# EAGLE library part VG64S (library 1A-meinLib)
PCB EUROCARD, 64-pin type C/AC, 2.54 mm
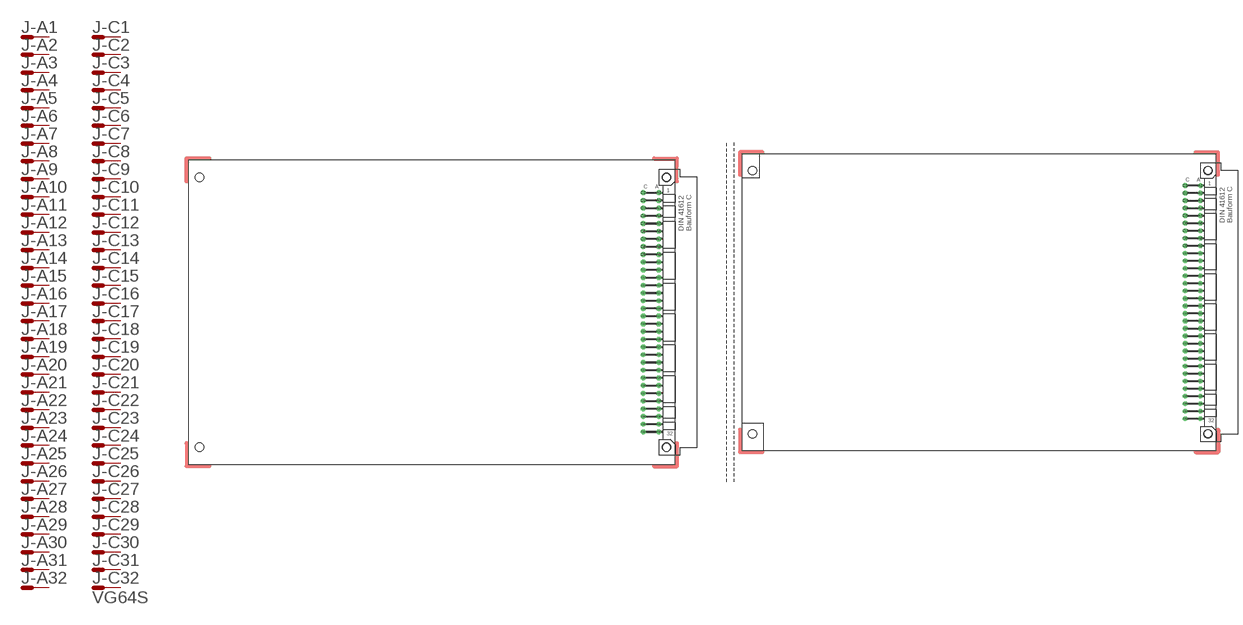
[diagram p11: symbol with the pads of VG64; footprints VG64, VG64B]

Designator prefix J; gates -A1=MS -A2=MS -A3=MS -A4=MS -A5=MS -A6=MS -A7=MS -A8=MS -A9=MS -A10=MS -A11=MS -A12=MS -A13=MS -A14=MS -A15=MS -A16=MS -A17=MS -A18=MS -A19=MS -A20=MS -A21=MS -A22=MS -A23=MS -A24=MS -A25=MS -A26=MS -A27=MS -A28=MS -A29=MS -A30=MS -A31=MS -A32=MS -C1=MS -C2=MS -C3=MS -C4=MS -C5=MS -C6=MS -C7=MS -C8=MS -C9=MS -C10=MS -C11=MS -C12=MS -C13=MS -C14=MS -C15=MS -C16=MS -C17=MS -C18=MS -C19=MS -C20=MS -C21=MS -C22=MS -C23=MS -C24=MS -C25=MS -C26=MS -C27=MS -C28=MS -C29=MS -C30=MS -C31=MS -C32=MSV

## VG64S  [VG64]
A1  -A1:MS  pas
A2  -A2:MS  pas
A3  -A3:MS  pas
A4  -A4:MS  pas
A5  -A5:MS  pas
A6  -A6:MS  pas
A7  -A7:MS  pas
A8  -A8:MS  pas
A9  -A9:MS  pas
A10  -A10:MS  pas
A11  -A11:MS  pas
A12  -A12:MS  pas
A13  -A13:MS  pas
A14  -A14:MS  pas
A15  -A15:MS  pas
A16  -A16:MS  pas
A17  -A17:MS  pas
A18  -A18:MS  pas
A19  -A19:MS  pas
A20  -A20:MS  pas
A21  -A21:MS  pas
A22  -A22:MS  pas
A23  -A23:MS  pas
A24  -A24:MS  pas
A25  -A25:MS  pas
A26  -A26:MS  pas
A27  -A27:MS  pas
A28  -A28:MS  pas
A29  -A29:MS  pas
A30  -A30:MS  pas
A31  -A31:MS  pas
A32  -A32:MS  pas
C1  -C1:MS  pas
C2  -C2:MS  pas
C3  -C3:MS  pas
C4  -C4:MS  pas
C5  -C5:MS  pas
C6  -C6:MS  pas
C7  -C7:MS  pas
C8  -C8:MS  pas
C9  -C9:MS  pas
C10  -C10:MS  pas
C11  -C11:MS  pas
C12  -C12:MS  pas
C13  -C13:MS  pas
C14  -C14:MS  pas
C15  -C15:MS  pas
C16  -C16:MS  pas
C17  -C17:MS  pas
C18  -C18:MS  pas
C19  -C19:MS  pas
C20  -C20:MS  pas
C21  -C21:MS  pas
C22  -C22:MS  pas
C23  -C23:MS  pas
C24  -C24:MS  pas
C25  -C25:MS  pas
C26  -C26:MS  pas
C27  -C27:MS  pas
C28  -C28:MS  pas
C29  -C29:MS  pas
C30  -C30:MS  pas
C31  -C31:MS  pas
C32  -C32:MSV  pas

## VG64SB  [VG64B]
Pads as for VG64

## VG64SK  [VG64K]
Pads as for VG64

## VG64SKB  [VG64KB]
Pads as for VG64

## VG64SP  [VG96P]
Pads as for VG64

## VG64S220  [VG64K220]
Pads as for VG64

## VG64SBACKPL  [VG64-BACKPLANE]
Pads as for VG64

## VG64S-100  [VG64B-100]
Pads as for VG64

## VG64S64P  [VG64P]
Pads as for VG64

## VG64S265MM  [VG64K265]
Pads as for VG64

## VG64S280  [VG64B-280]
Pads as for VG64

## VG64SFEDERLEISTE  [VG64_FEDERLEISTE]
Pads as for VG64

## VG64SDOUBLE_HEIGHT-280_TOP  [VG64P_X1_DOUPLE-HEIGHT-280]
Pads as for VG64

## VG64SX1-DOUBLE-HEIGHT-280-BOTTOM  [VG64P_X1_DOUBLE-HEIGHT-280-BOTTOM]
Pads as for VG64

## Footprint VG64 (pad centres in mm)
EUROCARD, 2 holes, C/AC, 2.54
drill 0.914 pad 1.6 round: A1 154.94,39.37
drill 0.914 pad 1.6 octagon: A2 154.94,36.83; A3 154.94,34.29; A4 154.94,31.75; A5 154.94,29.21; A6 154.94,26.67; A7 154.94,24.13; A8 154.94,21.59; A9 154.94,19.05; A10 154.94,16.51; A11 154.94,13.97; A12 154.94,11.43; A13 154.94,8.89; A14 154.94,6.35; A15 154.94,3.81; A16 154.94,1.27; A17 154.94,-1.27; A18 154.94,-3.81; A19 154.94,-6.35; A20 154.94,-8.89; A21 154.94,-11.43; A22 154.94,-13.97; A23 154.94,-16.51; A24 154.94,-19.05; A25 154.94,-21.59; A26 154.94,-24.13; A27 154.94,-26.67; A28 154.94,-29.21; A29 154.94,-31.75; A30 154.94,-34.29; A31 154.94,-36.83; A32 154.94,-39.37; C1 149.86,39.37; C2 149.86,36.83; C3 149.86,34.29; C4 149.86,31.75; C5 149.86,29.21; C6 149.86,26.67; C7 149.86,24.13; C8 149.86,21.59; C9 149.86,19.05; C10 149.86,16.51; C11 149.86,13.97; C12 149.86,11.43; C13 149.86,8.89; C14 149.86,6.35; C15 149.86,3.81; C16 149.86,1.27; C17 149.86,-1.27; C18 149.86,-3.81; C19 149.86,-6.35; C20 149.86,-8.89; C21 149.86,-11.43; C22 149.86,-13.97; C23 149.86,-16.51; C24 149.86,-19.05; C25 149.86,-21.59; C26 149.86,-24.13; C27 149.86,-26.67; C28 149.86,-29.21; C29 149.86,-31.75; C30 149.86,-34.29; C31 149.86,-36.83; C32 149.86,-39.37
hole 2.794 at 157.48,44.45
hole 2.794 at 157.48,-44.45
hole 2.8 at 3.81,-44.45
hole 2.8 at 3.81,44.45

## Footprint VG64B (pad centres in mm)
EUROCARD, 4 holes, C/AC, 2.54
drill 0.914 pad 1.6 round: A1 154.94,39.37
drill 0.914 pad 1.6 octagon: A2 154.94,36.83; A3 154.94,34.29; A4 154.94,31.75; A5 154.94,29.21; A6 154.94,26.67; A7 154.94,24.13; A8 154.94,21.59; A9 154.94,19.05; A10 154.94,16.51; A11 154.94,13.97; A12 154.94,11.43; A13 154.94,8.89; A14 154.94,6.35; A15 154.94,3.81; A16 154.94,1.27; A17 154.94,-1.27; A18 154.94,-3.81; A19 154.94,-6.35; A20 154.94,-8.89; A21 154.94,-11.43; A22 154.94,-13.97; A23 154.94,-16.51; A24 154.94,-19.05; A25 154.94,-21.59; A26 154.94,-24.13; A27 154.94,-26.67; A28 154.94,-29.21; A29 154.94,-31.75; A30 154.94,-34.29; A31 154.94,-36.83; A32 154.94,-39.37; C1 149.86,39.37; C2 149.86,36.83; C3 149.86,34.29; C4 149.86,31.75; C5 149.86,29.21; C6 149.86,26.67; C7 149.86,24.13; C8 149.86,21.59; C9 149.86,19.05; C10 149.86,16.51; C11 149.86,13.97; C12 149.86,11.43; C13 149.86,8.89; C14 149.86,6.35; C15 149.86,3.81; C16 149.86,1.27; C17 149.86,-1.27; C18 149.86,-3.81; C19 149.86,-6.35; C20 149.86,-8.89; C21 149.86,-11.43; C22 149.86,-13.97; C23 149.86,-16.51; C24 149.86,-19.05; C25 149.86,-21.59; C26 149.86,-24.13; C27 149.86,-26.67; C28 149.86,-29.21; C29 149.86,-31.75; C30 149.86,-34.29; C31 149.86,-36.83; C32 149.86,-39.37
hole 2.794 at 157.48,44.45
hole 2.794 at 157.48,-44.45
hole 2.794 at 3.81,-44.45
hole 2.794 at 3.81,44.45

## Footprint VG64K (pad centres in mm)
EUROCARD, 2 holes, C/ABC, 2.54
drill 0.914 pad 1.6 round: A1 154.94,39.37
drill 0.914 pad 1.6 octagon: A2 154.94,36.83; A3 154.94,34.29; A4 154.94,31.75; A5 154.94,29.21; A6 154.94,26.67; A7 154.94,24.13; A8 154.94,21.59; A9 154.94,19.05; A10 154.94,16.51; A11 154.94,13.97; A12 154.94,11.43; A13 154.94,8.89; A14 154.94,6.35; A15 154.94,3.81; A16 154.94,1.27; A17 154.94,-1.27; A18 154.94,-3.81; A19 154.94,-6.35; A20 154.94,-8.89; A21 154.94,-11.43; A22 154.94,-13.97; A23 154.94,-16.51; A24 154.94,-19.05; A25 154.94,-21.59; A26 154.94,-24.13; A27 154.94,-26.67; A28 154.94,-29.21; A29 154.94,-31.75; A30 154.94,-34.29; A31 154.94,-36.83; A32 154.94,-39.37; C1 149.86,39.37; C2 149.86,36.83; C3 149.86,34.29; C4 149.86,31.75; C5 149.86,29.21; C6 149.86,26.67; C7 149.86,24.13; C8 149.86,21.59; C9 149.86,19.05; C10 149.86,16.51; C11 149.86,13.97; C12 149.86,11.43; C13 149.86,8.89; C14 149.86,6.35; C15 149.86,3.81; C16 149.86,1.27; C17 149.86,-1.27; C18 149.86,-3.81; C19 149.86,-6.35; C20 149.86,-8.89; C21 149.86,-11.43; C22 149.86,-13.97; C23 149.86,-16.51; C24 149.86,-19.05; C25 149.86,-21.59; C26 149.86,-24.13; C27 149.86,-26.67; C28 149.86,-29.21; C29 149.86,-31.75; C30 149.86,-34.29; C31 149.86,-36.83; C32 149.86,-39.37
hole 2.794 at 157.48,44.45
hole 2.794 at 157.48,-44.45

## Footprint VG64KB (pad centres in mm)
EUROCARD, 4 holes, C/AC, 2.54
drill 0.914 pad 1.6 round: A1 154.94,39.37
drill 0.914 pad 1.6 octagon: A2 154.94,36.83; A3 154.94,34.29; A4 154.94,31.75; A5 154.94,29.21; A6 154.94,26.67; A7 154.94,24.13; A8 154.94,21.59; A9 154.94,19.05; A10 154.94,16.51; A11 154.94,13.97; A12 154.94,11.43; A13 154.94,8.89; A14 154.94,6.35; A15 154.94,3.81; A16 154.94,1.27; A17 154.94,-1.27; A18 154.94,-3.81; A19 154.94,-6.35; A20 154.94,-8.89; A21 154.94,-11.43; A22 154.94,-13.97; A23 154.94,-16.51; A24 154.94,-19.05; A25 154.94,-21.59; A26 154.94,-24.13; A27 154.94,-26.67; A28 154.94,-29.21; A29 154.94,-31.75; A30 154.94,-34.29; A31 154.94,-36.83; A32 154.94,-39.37; C1 149.86,39.37; C2 149.86,36.83; C3 149.86,34.29; C4 149.86,31.75; C5 149.86,29.21; C6 149.86,26.67; C7 149.86,24.13; C8 149.86,21.59; C9 149.86,19.05; C10 149.86,16.51; C11 149.86,13.97; C12 149.86,11.43; C13 149.86,8.89; C14 149.86,6.35; C15 149.86,3.81; C16 149.86,1.27; C17 149.86,-1.27; C18 149.86,-3.81; C19 149.86,-6.35; C20 149.86,-8.89; C21 149.86,-11.43; C22 149.86,-13.97; C23 149.86,-16.51; C24 149.86,-19.05; C25 149.86,-21.59; C26 149.86,-24.13; C27 149.86,-26.67; C28 149.86,-29.21; C29 149.86,-31.75; C30 149.86,-34.29; C31 149.86,-36.83; C32 149.86,-39.37
hole 2.794 at 157.48,44.45
hole 2.794 at 157.48,-44.45
hole 2.794 at 3.81,-44.45
hole 2.794 at 3.81,44.45

## Footprint VG96P (pad centres in mm)
EUROCARD, holder, C/ABC, 2.54
drill 0.914 pad 1.6 round: A1 154.94,39.37
drill 0.914 pad 1.6 octagon: A2 154.94,36.83; A3 154.94,34.29; A4 154.94,31.75; A5 154.94,29.21; A6 154.94,26.67; A7 154.94,24.13; A8 154.94,21.59; A9 154.94,19.05; A10 154.94,16.51; A11 154.94,13.97; A12 154.94,11.43; A13 154.94,8.89; A14 154.94,6.35; A15 154.94,3.81; A16 154.94,1.27; A17 154.94,-1.27; A18 154.94,-3.81; A19 154.94,-6.35; A20 154.94,-8.89; A21 154.94,-11.43; A22 154.94,-13.97; A23 154.94,-16.51; A24 154.94,-19.05; A25 154.94,-21.59; A26 154.94,-24.13; A27 154.94,-26.67; A28 154.94,-29.21; A29 154.94,-31.75; A30 154.94,-34.29; A31 154.94,-36.83; A32 154.94,-39.37; B1 152.4,39.37; B2 152.4,36.83; B3 152.4,34.29; B4 152.4,31.75; B5 152.4,29.21; B6 152.4,26.67; B7 152.4,24.13; B8 152.4,21.59; B9 152.4,19.05; B10 152.4,16.51; B11 152.4,13.97; B12 152.4,11.43; B13 152.4,8.89; B14 152.4,6.35; B15 152.4,3.81; B16 152.4,1.27; B17 152.4,-1.27; B18 152.4,-3.81; B19 152.4,-6.35; B20 152.4,-8.89; B21 152.4,-11.43; B22 152.4,-13.97; B23 152.4,-16.51; B24 152.4,-19.05; B25 152.4,-21.59; B26 152.4,-24.13; B27 152.4,-26.67; B28 152.4,-29.21; B29 152.4,-31.75; B30 152.4,-34.29; B31 152.4,-36.83; B32 152.4,-39.37; C1 149.86,39.37; C2 149.86,36.83; C3 149.86,34.29; C4 149.86,31.75; C5 149.86,29.21; C6 149.86,26.67; C7 149.86,24.13; C8 149.86,21.59; C9 149.86,19.05; C10 149.86,16.51; C11 149.86,13.97; C12 149.86,11.43; C13 149.86,8.89; C14 149.86,6.35; C15 149.86,3.81; C16 149.86,1.27; C17 149.86,-1.27; C18 149.86,-3.81; C19 149.86,-6.35; C20 149.86,-8.89; C21 149.86,-11.43; C22 149.86,-13.97; C23 149.86,-16.51; C24 149.86,-19.05; C25 149.86,-21.59; C26 149.86,-24.13; C27 149.86,-26.67; C28 149.86,-29.21; C29 149.86,-31.75; C30 149.86,-34.29; C31 149.86,-36.83; C32 149.86,-39.37
hole 2.794 at 3.81,44.45
hole 2.794 at 3.81,-44.45
hole 2.794 at 157.48,44.45
hole 2.794 at 157.48,-44.45

## Footprint VG64K220 (pad centres in mm)
Europakarte 220mm + 3.5mm x 100 fuer Steckbaugruppe Schroff-20848-487
drill 0.914 pad 1.6 round: A1 153.67,86.36
drill 0.914 pad 1.6 octagon: A2 153.67,83.82; A3 153.67,81.28; A4 153.67,78.74; A5 153.67,76.2; A6 153.67,73.66; A7 153.67,71.12; A8 153.67,68.58; A9 153.67,66.04; A10 153.67,63.5; A11 153.67,60.96; A12 153.67,58.42; A13 153.67,55.88; A14 153.67,53.34; A15 153.67,50.8; A16 153.67,48.26; A17 153.67,45.72; A18 153.67,43.18; A19 153.67,40.64; A20 153.67,38.1; A21 153.67,35.56; A22 153.67,33.02; A23 153.67,30.48; A24 153.67,27.94; A25 153.67,25.4; A26 153.67,22.86; A27 153.67,20.32; A28 153.67,17.78; A29 153.67,15.24; A30 153.67,12.7; A31 153.67,10.16; A32 153.67,7.62; C1 148.59,86.36; C2 148.59,83.82; C3 148.59,81.28; C4 148.59,78.74; C5 148.59,76.2; C6 148.59,73.66; C7 148.59,71.12; C8 148.59,68.58; C9 148.59,66.04; C10 148.59,63.5; C11 148.59,60.96; C12 148.59,58.42; C13 148.59,55.88; C14 148.59,53.34; C15 148.59,50.8; C16 148.59,48.26; C17 148.59,45.72; C18 148.59,43.18; C19 148.59,40.64; C20 148.59,38.1; C21 148.59,35.56; C22 148.59,33.02; C23 148.59,30.48; C24 148.59,27.94; C25 148.59,25.4; C26 148.59,22.86; C27 148.59,20.32; C28 148.59,17.78; C29 148.59,15.24; C30 148.59,12.7; C31 148.59,10.16; C32 148.59,7.62
hole 2.794 at 156.21,91.44
hole 2.794 at 156.21,2.54
hole 2.8 at -57.804,2.54
hole 2.8 at -57.804,91.44

## Footprint VG64-BACKPLANE (pad centres in mm)
drill 0.914 pad 1.6 square: A1 0.002,0.006
drill 0.914 pad 1.6 octagon: A2 0.002,-2.534; A3 0.002,-5.074; A4 0.002,-7.614; A5 0.002,-10.154; A6 0.002,-12.694; A7 0.002,-15.234; A8 0.002,-17.774; A9 0.002,-20.314; A10 0.002,-22.854; A11 0.002,-25.394; A12 0.002,-27.934; A13 0.002,-30.474; A14 0.002,-33.014; A15 0.002,-35.554; A16 0.002,-38.094; A17 0.002,-40.634; A18 0.002,-43.174; A19 0.002,-45.714; A20 0.002,-48.254; A21 0.002,-50.794; A22 0.002,-53.334; A23 0.002,-55.874; A24 0.002,-58.414; A25 0.002,-60.954; A26 0.002,-63.494; A27 0.002,-66.034; A28 0.002,-68.574; A29 0.002,-71.114; A30 0.002,-73.654; A31 0.002,-76.194; A32 0.002,-78.734; C1 5.082,0.006; C2 5.082,-2.534; C3 5.082,-5.074; C4 5.082,-7.614; C5 5.082,-10.154; C6 5.082,-12.694; C7 5.082,-15.234; C8 5.082,-17.774; C9 5.082,-20.314; C10 5.082,-22.854; C11 5.082,-25.394; C12 5.082,-27.934; C13 5.082,-30.474; C14 5.082,-33.014; C15 5.082,-35.554; C16 5.082,-38.094; C17 5.082,-40.634; C18 5.082,-43.174; C19 5.082,-45.714; C20 5.082,-48.254; C21 5.082,-50.794; C22 5.082,-53.334; C23 5.082,-55.874; C24 5.082,-58.414; C25 5.082,-60.954; C26 5.082,-63.494; C27 5.082,-66.034; C28 5.082,-68.574; C29 5.082,-71.114; C30 5.082,-73.654; C31 5.082,-76.194; C32 5.082,-78.734

## Footprint VG64B-100 (pad centres in mm)
drill 0.914 pad 1.6 round: A1 94.94,39.37
drill 0.914 pad 1.6 octagon: A2 94.94,36.83; A3 94.94,34.29; A4 94.94,31.75; A5 94.94,29.21; A6 94.94,26.67; A7 94.94,24.13; A8 94.94,21.59; A9 94.94,19.05; A10 94.94,16.51; A11 94.94,13.97; A12 94.94,11.43; A13 94.94,8.89; A14 94.94,6.35; A15 94.94,3.81; A16 94.94,1.27; A17 94.94,-1.27; A18 94.94,-3.81; A19 94.94,-6.35; A20 94.94,-8.89; A21 94.94,-11.43; A22 94.94,-13.97; A23 94.94,-16.51; A24 94.94,-19.05; A25 94.94,-21.59; A26 94.94,-24.13; A27 94.94,-26.67; A28 94.94,-29.21; A29 94.94,-31.75; A30 94.94,-34.29; A31 94.94,-36.83; A32 94.94,-39.37; C1 89.86,39.37; C2 89.86,36.83; C3 89.86,34.29; C4 89.86,31.75; C5 89.86,29.21; C6 89.86,26.67; C7 89.86,24.13; C8 89.86,21.59; C9 89.86,19.05; C10 89.86,16.51; C11 89.86,13.97; C12 89.86,11.43; C13 89.86,8.89; C14 89.86,6.35; C15 89.86,3.81; C16 89.86,1.27; C17 89.86,-1.27; C18 89.86,-3.81; C19 89.86,-6.35; C20 89.86,-8.89; C21 89.86,-11.43; C22 89.86,-13.97; C23 89.86,-16.51; C24 89.86,-19.05; C25 89.86,-21.59; C26 89.86,-24.13; C27 89.86,-26.67; C28 89.86,-29.21; C29 89.86,-31.75; C30 89.86,-34.29; C31 89.86,-36.83; C32 89.86,-39.37
hole 2.8 at 97.487,44.45
hole 2.8 at 97.487,-44.45
hole 2.8 at 3.81,44.45
hole 2.8 at 3.81,-44.45

## Footprint VG64P (pad centres in mm)
drill 0.914 pad 1.6 round: A1 151.13,83.82
drill 0.914 pad 1.6 octagon: A2 151.13,81.28; A3 151.13,78.74; A4 151.13,76.2; A5 151.13,73.66; A6 151.13,71.12; A7 151.13,68.58; A8 151.13,66.04; A9 151.13,63.5; A10 151.13,60.96; A11 151.13,58.42; A12 151.13,55.88; A13 151.13,53.34; A14 151.13,50.8; A15 151.13,48.26; A16 151.13,45.72; A17 151.13,43.18; A18 151.13,40.64; A19 151.13,38.1; A20 151.13,35.56; A21 151.13,33.02; A22 151.13,30.48; A23 151.13,27.94; A24 151.13,25.4; A25 151.13,22.86; A26 151.13,20.32; A27 151.13,17.78; A28 151.13,15.24; A29 151.13,12.7; A30 151.13,10.16; A31 151.13,7.62; A32 151.13,5.08; C1 146.05,83.82; C2 146.05,81.28; C3 146.05,78.74; C4 146.05,76.2; C5 146.05,73.66; C6 146.05,71.12; C7 146.05,68.58; C8 146.05,66.04; C9 146.05,63.5; C10 146.05,60.96; C11 146.05,58.42; C12 146.05,55.88; C13 146.05,53.34; C14 146.05,50.8; C15 146.05,48.26; C16 146.05,45.72; C17 146.05,43.18; C18 146.05,40.64; C19 146.05,38.1; C20 146.05,35.56; C21 146.05,33.02; C22 146.05,30.48; C23 146.05,27.94; C24 146.05,25.4; C25 146.05,22.86; C26 146.05,20.32; C27 146.05,17.78; C28 146.05,15.24; C29 146.05,12.7; C30 146.05,10.16; C31 146.05,7.62; C32 146.05,5.08
hole 2.794 at 0,88.9
hole 2.794 at 0,0
hole 2.794 at 153.67,88.9
hole 2.794 at 153.67,0

## Footprint VG64K265 (pad centres in mm)
drill 0.914 pad 1.6 round: A1 153.67,86.36
drill 0.914 pad 1.6 octagon: A2 153.67,83.82; A3 153.67,81.28; A4 153.67,78.74; A5 153.67,76.2; A6 153.67,73.66; A7 153.67,71.12; A8 153.67,68.58; A9 153.67,66.04; A10 153.67,63.5; A11 153.67,60.96; A12 153.67,58.42; A13 153.67,55.88; A14 153.67,53.34; A15 153.67,50.8; A16 153.67,48.26; A17 153.67,45.72; A18 153.67,43.18; A19 153.67,40.64; A20 153.67,38.1; A21 153.67,35.56; A22 153.67,33.02; A23 153.67,30.48; A24 153.67,27.94; A25 153.67,25.4; A26 153.67,22.86; A27 153.67,20.32; A28 153.67,17.78; A29 153.67,15.24; A30 153.67,12.7; A31 153.67,10.16; A32 153.67,7.62; C1 148.59,86.36; C2 148.59,83.82; C3 148.59,81.28; C4 148.59,78.74; C5 148.59,76.2; C6 148.59,73.66; C7 148.59,71.12; C8 148.59,68.58; C9 148.59,66.04; C10 148.59,63.5; C11 148.59,60.96; C12 148.59,58.42; C13 148.59,55.88; C14 148.59,53.34; C15 148.59,50.8; C16 148.59,48.26; C17 148.59,45.72; C18 148.59,43.18; C19 148.59,40.64; C20 148.59,38.1; C21 148.59,35.56; C22 148.59,33.02; C23 148.59,30.48; C24 148.59,27.94; C25 148.59,25.4; C26 148.59,22.86; C27 148.59,20.32; C28 148.59,17.78; C29 148.59,15.24; C30 148.59,12.7; C31 148.59,10.16; C32 148.59,7.62
hole 2.794 at 156.21,91.44
hole 2.794 at 156.21,2.54
hole 2.8 at -102.804,2.54
hole 2.8 at -102.804,91.44

## Footprint VG64B-280 (pad centres in mm)
drill 0.914 pad 1.6 round: A1 151.63,83.82
drill 0.914 pad 1.6 octagon: A2 151.63,81.28; A3 151.63,78.74; A4 151.63,76.2; A5 151.63,73.66; A6 151.63,71.12; A7 151.63,68.58; A8 151.63,66.04; A9 151.63,63.5; A10 151.63,60.96; A11 151.63,58.42; A12 151.63,55.88; A13 151.63,53.34; A14 151.63,50.8; A15 151.63,48.26; A16 151.63,45.72; A17 151.63,43.18; A18 151.63,40.64; A19 151.63,38.1; A20 151.63,35.56; A21 151.63,33.02; A22 151.63,30.48; A23 151.63,27.94; A24 151.63,25.4; A25 151.63,22.86; A26 151.63,20.32; A27 151.63,17.78; A28 151.63,15.24; A29 151.63,12.7; A30 151.63,10.16; A31 151.63,7.62; A32 151.63,5.08; C1 146.55,83.82; C2 146.55,81.28; C3 146.55,78.74; C4 146.55,76.2; C5 146.55,73.66; C6 146.55,71.12; C7 146.55,68.58; C8 146.55,66.04; C9 146.55,63.5; C10 146.55,60.96; C11 146.55,58.42; C12 146.55,55.88; C13 146.55,53.34; C14 146.55,50.8; C15 146.55,48.26; C16 146.55,45.72; C17 146.55,43.18; C18 146.55,40.64; C19 146.55,38.1; C20 146.55,35.56; C21 146.55,33.02; C22 146.55,30.48; C23 146.55,27.94; C24 146.55,25.4; C25 146.55,22.86; C26 146.55,20.32; C27 146.55,17.78; C28 146.55,15.24; C29 146.55,12.7; C30 146.55,10.16; C31 146.55,7.62; C32 146.55,5.08
hole 2.794 at 154.17,88.9
hole 2.794 at 154.17,0
hole 2.794 at -120.015,0
hole 2.794 at -120.015,88.9

## Footprint VG64_FEDERLEISTE (pad centres in mm)
drill 0.914 pad 1.6 round: A1 -2.541,83.819
drill 0.914 pad 1.6 octagon: A2 -2.541,81.279; A3 -2.541,78.739; A4 -2.541,76.199; A5 -2.541,73.659; A6 -2.541,71.119; A7 -2.541,68.579; A8 -2.541,66.039; A9 -2.541,63.499; A10 -2.541,60.959; A11 -2.541,58.419; A12 -2.541,55.879; A13 -2.541,53.339; A14 -2.541,50.799; A15 -2.541,48.259; A16 -2.541,45.719; A17 -2.541,43.179; A18 -2.541,40.639; A19 -2.541,38.099; A20 -2.541,35.559; A21 -2.541,33.019; A22 -2.541,30.479; A23 -2.541,27.939; A24 -2.541,25.399; A25 -2.541,22.859; A26 -2.541,20.319; A27 -2.541,17.779; A28 -2.541,15.239; A29 -2.541,12.699; A30 -2.541,10.159; A31 -2.541,7.619; A32 -2.541,5.079; C1 -7.621,83.819; C2 -7.621,81.279; C3 -7.621,78.739; C4 -7.621,76.199; C5 -7.621,73.659; C6 -7.621,71.119; C7 -7.621,68.579; C8 -7.621,66.039; C9 -7.621,63.499; C10 -7.621,60.959; C11 -7.621,58.419; C12 -7.621,55.879; C13 -7.621,53.339; C14 -7.621,50.799; C15 -7.621,48.259; C16 -7.621,45.719; C17 -7.621,43.179; C18 -7.621,40.639; C19 -7.621,38.099; C20 -7.621,35.559; C21 -7.621,33.019; C22 -7.621,30.479; C23 -7.621,27.939; C24 -7.621,25.399; C25 -7.621,22.859; C26 -7.621,20.319; C27 -7.621,17.779; C28 -7.621,15.239; C29 -7.621,12.699; C30 -7.621,10.159; C31 -7.621,7.619; C32 -7.621,5.079
hole 2.8 at 0.001,88.9
hole 2.8 at 0.001,0.001

## Footprint VG64P_X1_DOUPLE-HEIGHT-280 (pad centres in mm)
drill 0.914 pad 1.6 round: A1 271.12,217.17
drill 0.914 pad 1.6 octagon: A2 271.12,214.63; A3 271.12,212.09; A4 271.12,209.55; A5 271.12,207.01; A6 271.12,204.47; A7 271.12,201.93; A8 271.12,199.39; A9 271.12,196.85; A10 271.12,194.31; A11 271.12,191.77; A12 271.12,189.23; A13 271.12,186.69; A14 271.12,184.15; A15 271.12,181.61; A16 271.12,179.07; A17 271.12,176.53; A18 271.12,173.99; A19 271.12,171.45; A20 271.12,168.91; A21 271.12,166.37; A22 271.12,163.83; A23 271.12,161.29; A24 271.12,158.75; A25 271.12,156.21; A26 271.12,153.67; A27 271.12,151.13; A28 271.12,148.59; A29 271.12,146.05; A30 271.12,143.51; A31 271.12,140.97; A32 271.12,138.43; C1 266.04,217.17; C2 266.04,214.63; C3 266.04,212.09; C4 266.04,209.55; C5 266.04,207.01; C6 266.04,204.47; C7 266.04,201.93; C8 266.04,199.39; C9 266.04,196.85; C10 266.04,194.31; C11 266.04,191.77; C12 266.04,189.23; C13 266.04,186.69; C14 266.04,184.15; C15 266.04,181.61; C16 266.04,179.07; C17 266.04,176.53; C18 266.04,173.99; C19 266.04,171.45; C20 266.04,168.91; C21 266.04,166.37; C22 266.04,163.83; C23 266.04,161.29; C24 266.04,158.75; C25 266.04,156.21; C26 266.04,153.67; C27 266.04,151.13; C28 266.04,148.59; C29 266.04,146.05; C30 266.04,143.51; C31 266.04,140.97; C32 266.04,138.43

## Footprint VG64P_X1_DOUBLE-HEIGHT-280-BOTTOM (pad centres in mm)
drill 0.914 pad 1.6 round: A1 271.12,83.82
drill 0.914 pad 1.6 octagon: A2 271.12,81.28; A3 271.12,78.74; A4 271.12,76.2; A5 271.12,73.66; A6 271.12,71.12; A7 271.12,68.58; A8 271.12,66.04; A9 271.12,63.5; A10 271.12,60.96; A11 271.12,58.42; A12 271.12,55.88; A13 271.12,53.34; A14 271.12,50.8; A15 271.12,48.26; A16 271.12,45.72; A17 271.12,43.18; A18 271.12,40.64; A19 271.12,38.1; A20 271.12,35.56; A21 271.12,33.02; A22 271.12,30.48; A23 271.12,27.94; A24 271.12,25.4; A25 271.12,22.86; A26 271.12,20.32; A27 271.12,17.78; A28 271.12,15.24; A29 271.12,12.7; A30 271.12,10.16; A31 271.12,7.62; A32 271.12,5.08; C1 266.04,83.82; C2 266.04,81.28; C3 266.04,78.74; C4 266.04,76.2; C5 266.04,73.66; C6 266.04,71.12; C7 266.04,68.58; C8 266.04,66.04; C9 266.04,63.5; C10 266.04,60.96; C11 266.04,58.42; C12 266.04,55.88; C13 266.04,53.34; C14 266.04,50.8; C15 266.04,48.26; C16 266.04,45.72; C17 266.04,43.18; C18 266.04,40.64; C19 266.04,38.1; C20 266.04,35.56; C21 266.04,33.02; C22 266.04,30.48; C23 266.04,27.94; C24 266.04,25.4; C25 266.04,22.86; C26 266.04,20.32; C27 266.04,17.78; C28 266.04,15.24; C29 266.04,12.7; C30 266.04,10.16; C31 266.04,7.62; C32 266.04,5.08